# Altium schematic symbol library Components - NPN Digital.SchLib: 1 symbol
Pins are listed as number, name and electrical type; pins without a type are passive.

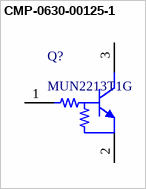
[diagram p0: symbol CMP-0630-00125-1]

## CMP-0630-00125-1
designator Q?, comment MUN2213T1G
Digital Transistor (BRT), R1=47 kOhm, R2=47 kOhm, NPN Transistor, 3-Pin SC-59, Pb-Free, Tape and Reel; Manufacturer: On Semiconductor; V(BR)CEO Min (V): 50; IC Continuous (A): 0.1; R1/R2 Typ: 1; hFE Min: 80; ComponentLink1URL: http://www.onsemi.com/; ComponentLink3URL: http://www.onsemi.cn/pub_link/Collateral/318D-04.PDF; ComponentLink2Description: Datasheet; RoHS: TRUE; Mounting Technology: Surface Mount; PackageReference: SC-59-3-318D-04; PackageVersion: Rev. H, 06/2012; DatasheetVersion: Rev. 2; Polarity: NPN; ComponentLink2URL: http://www.onsemi.cn/pub_link/Collateral/DTC144E-D.PDF; ComponentLink1Description: Manufacturer URL; Packing: Tape and Reel; PartNumber: MUN2213T1G; PackageDescription: 3-Pin Small Outline Transistor, Body 2.9 x 1.5 mm, Pitch 0.95 mm; ComponentLink3Description: Package Specification
footprint ONSC-SC-59-3-318D-04_V (SOT23, 3-Leads, Body 2.9x1.5mm, Pitch 0.95mm)
pins: 1 B, 2 E, 3 C